# Altium footprint library AMPHENOL_10114830-11103LF.PcbLib: 1 footprints
Each footprint in its own frame and in the unit in brackets; x right, y up, seen from the top. Pads: shape width x height; smd on the part's side, far side on the other; paste and mask are expansions set on the pad; w line width, h text height; cw(c..) or ccw(c..) is an arc to the next point about the centre after c.
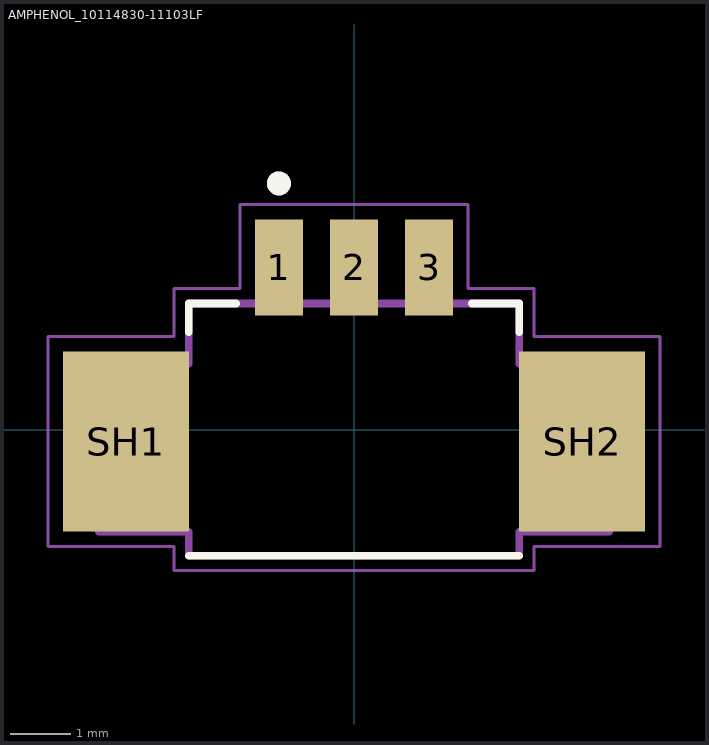
[diagram p0: the footprint, top view; thin cyan lines are the x and y axes]

## AMPHENOL_10114830-11103LF [mm]
height 3.4
pads (5):
  rect 0.8x1.6 smd: 1(-1.25,2.7) 2(0,2.7) 3(1.25,2.7)
  rect 2.1x3 smd: SH1(-3.8,-0.2) SH2(3.8,-0.2)
Top Overlay:
  circle w0.2: c-1.25,4.1 r0.1
  lines w0.127: -2.75,-2.1 2.75,-2.1 ; -2.75,1.62 -2.75,2.1 -1.965,2.1 ; 1.965,2.1 2.75,2.1 2.75,1.62
Mechanical 13:
  circle w0.2: c-1.25,4.1 r0.1
  lines w0.127: -4.25,-1.7 -4.25,1.1 -2.75,1.1 -2.75,2.1 2.75,2.1 2.75,1.1 4.25,1.1 4.25,-1.7 2.75,-1.7 2.75,-2.1 -2.75,-2.1 -2.75,-1.7 -4.25,-1.7
Mechanical 15:
  lines w0.05: -5.1,-1.95 -5.1,1.55 -3,1.55 -3,2.35 -1.9,2.35 -1.9,3.75 1.9,3.75 1.9,2.35 3,2.35 3,1.55 5.1,1.55 5.1,-1.95 3,-1.95 3,-2.35 -3,-2.35 -3,-1.95 -5.1,-1.95
3D body "step_temp.STEP": height 3.4, standoff 0, extent -4.45,-2.1 4.45,3.2